# Altium schematic symbol library interface.SchLib: 7 symbols
Pins are listed as number, name and electrical type; pins without a type are passive.

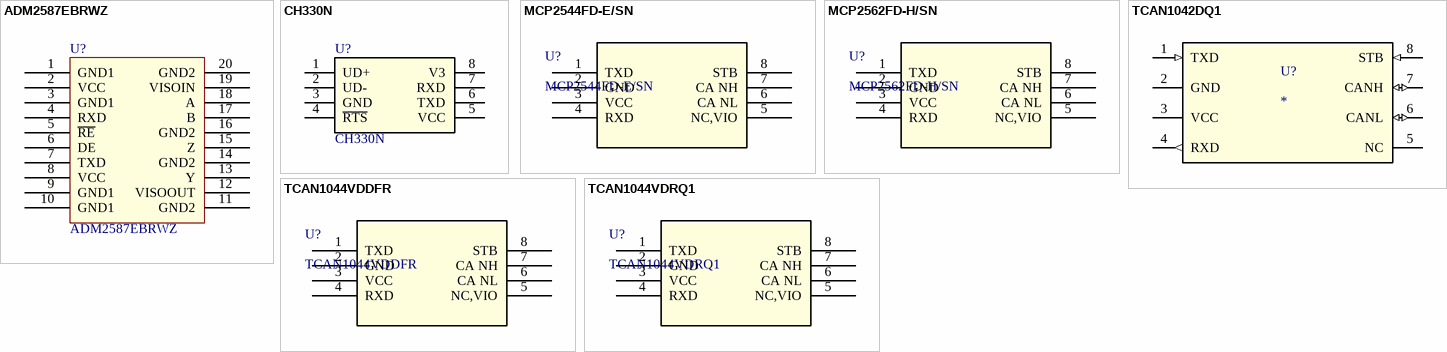
[diagram p0: symbols ADM2587EBRWZ to TCAN1044VDRQ1]

## ADM2587EBRWZ
designator U?
协议类别 RS422, RS485 / 电源电压 3.3V, 5V / 数据速率 500kbps; Manufacturer: ADI(亚德诺); Code: ADM2587EBRWZ-REEL7; CompType: 隔离485; DistributorCode: C12081; Package: WSOIC-20; A_Code: -; A_ComType: -; A_Manufacturer: -
footprint SO20/1.27_12.8*7.5
pins: 1 GND1, 2 VCC, 3 GND1, 4 RXD, 5 ~{RE}, 6 DE, 7 TXD, 8 VCC, 9 GND1, 10 GND1, 11 GND2, 12 VISOOUT, 13 Y, 14 GND2, 15 Z, 16 GND2, 17 B, 18 A, 19 VISOIN, 20 GND2

## CH330N
designator U?
驱动器/接收器数 - / 协议类别 USB 2.0 / 类型 Transceiver / 电源电压 3.3V, 5V / 数据速率 2Mbps; Manufacturer: WCH(南京沁恒); CompType: USB转UART; Code: CH330N; DistributorCode: C108996; Package: SOIC-8; A_Code: -; A_ComType: -; A_Manufacturer: -
footprint D8_TEX
pins: 1 UD+, 2 UD-, 3 GND, 4 ~{RTS}, 5 VCC, 6 TXD, 7 RXD, 8 V3

## MCP2544FD-E/SN
designator U?
收发器 / 驱动器/接收器数 1/1 / 协议类别 CAN总线 / 电源电压 4.5V ~ 5.5V / 数据速率 8Mbps; Manufacturer: MICROCHIP(美国微芯); CompType: CAN芯片; Code: MCP2544FD-E/SN; DistributorCode: C191256; Package: SOIC-8
footprint D8_TEX
pins: 1 TXD, 2 GND, 3 VCC (power), 4 RXD, 5 NC,VIO, 6 CA NL, 7 CA NH, 8 STB

## MCP2562FD-H/SN
designator U?
收发器 / 驱动器/接收器数 1/1 / 协议类别 CAN总线 / 电源电压 4.5V ~ 5.5V / 数据速率 8Mbps; Manufacturer: MICROCHIP(美国微芯); CompType: CAN芯片; Code: MCP2562FD-H/SN; DistributorCode: C191415; Package: SOIC-8
footprint D8_TEX
pins: 1 TXD, 2 GND, 3 VCC (power), 4 RXD, 5 NC,VIO, 6 CA NL, 7 CA NH, 8 STB

## TCAN1042DQ1
designator U?
收发器 / 驱动器/接收器数 1/1 / 协议类别 CAN总线 / 电源电压 4.5V ~ 5.5V / 数据速率 2Mbps; Manufacturer: TI(德州仪器); Code: TCAN1042DRQ1; CompType: CAN芯片; DistributorCode: C118837; Package: SOIC-8
footprint D8_TEX
pins: 1 TXD (in), 2 GND (power), 3 VCC (power), 4 RXD (out), 5 NC, 6 CANL (io), 7 CANH (io), 8 STB (in)

## TCAN1044VDDFR
designator U?
No Description Available; Manufacturer: TI(德州仪器); CompType: CAN芯片; Code: TCAN1044VDDFR; DistributorCode: C1855774; Package: SOT-23-8
footprint SOIC_4VDDFR_TEX-L
pins: 1 TXD, 2 GND, 3 VCC (power), 4 RXD, 5 NC,VIO, 6 CA NL, 7 CA NH, 8 STB

## TCAN1044VDRQ1
designator U?
No Description Available; Manufacturer: TI(德州仪器); CompType: CAN芯片; Code: TCAN1044VDRQ1; DistributorCode: C1852061; Package: SOIC-8
footprint D8_TEX
pins: 1 TXD, 2 GND, 3 VCC (power), 4 RXD, 5 NC,VIO, 6 CA NL, 7 CA NH, 8 STB